# Altium schematic symbol library Connector.SchLib: 136 symbols (part 1 of 2)
Pins are listed as number, name and electrical type; pins without a type are passive.

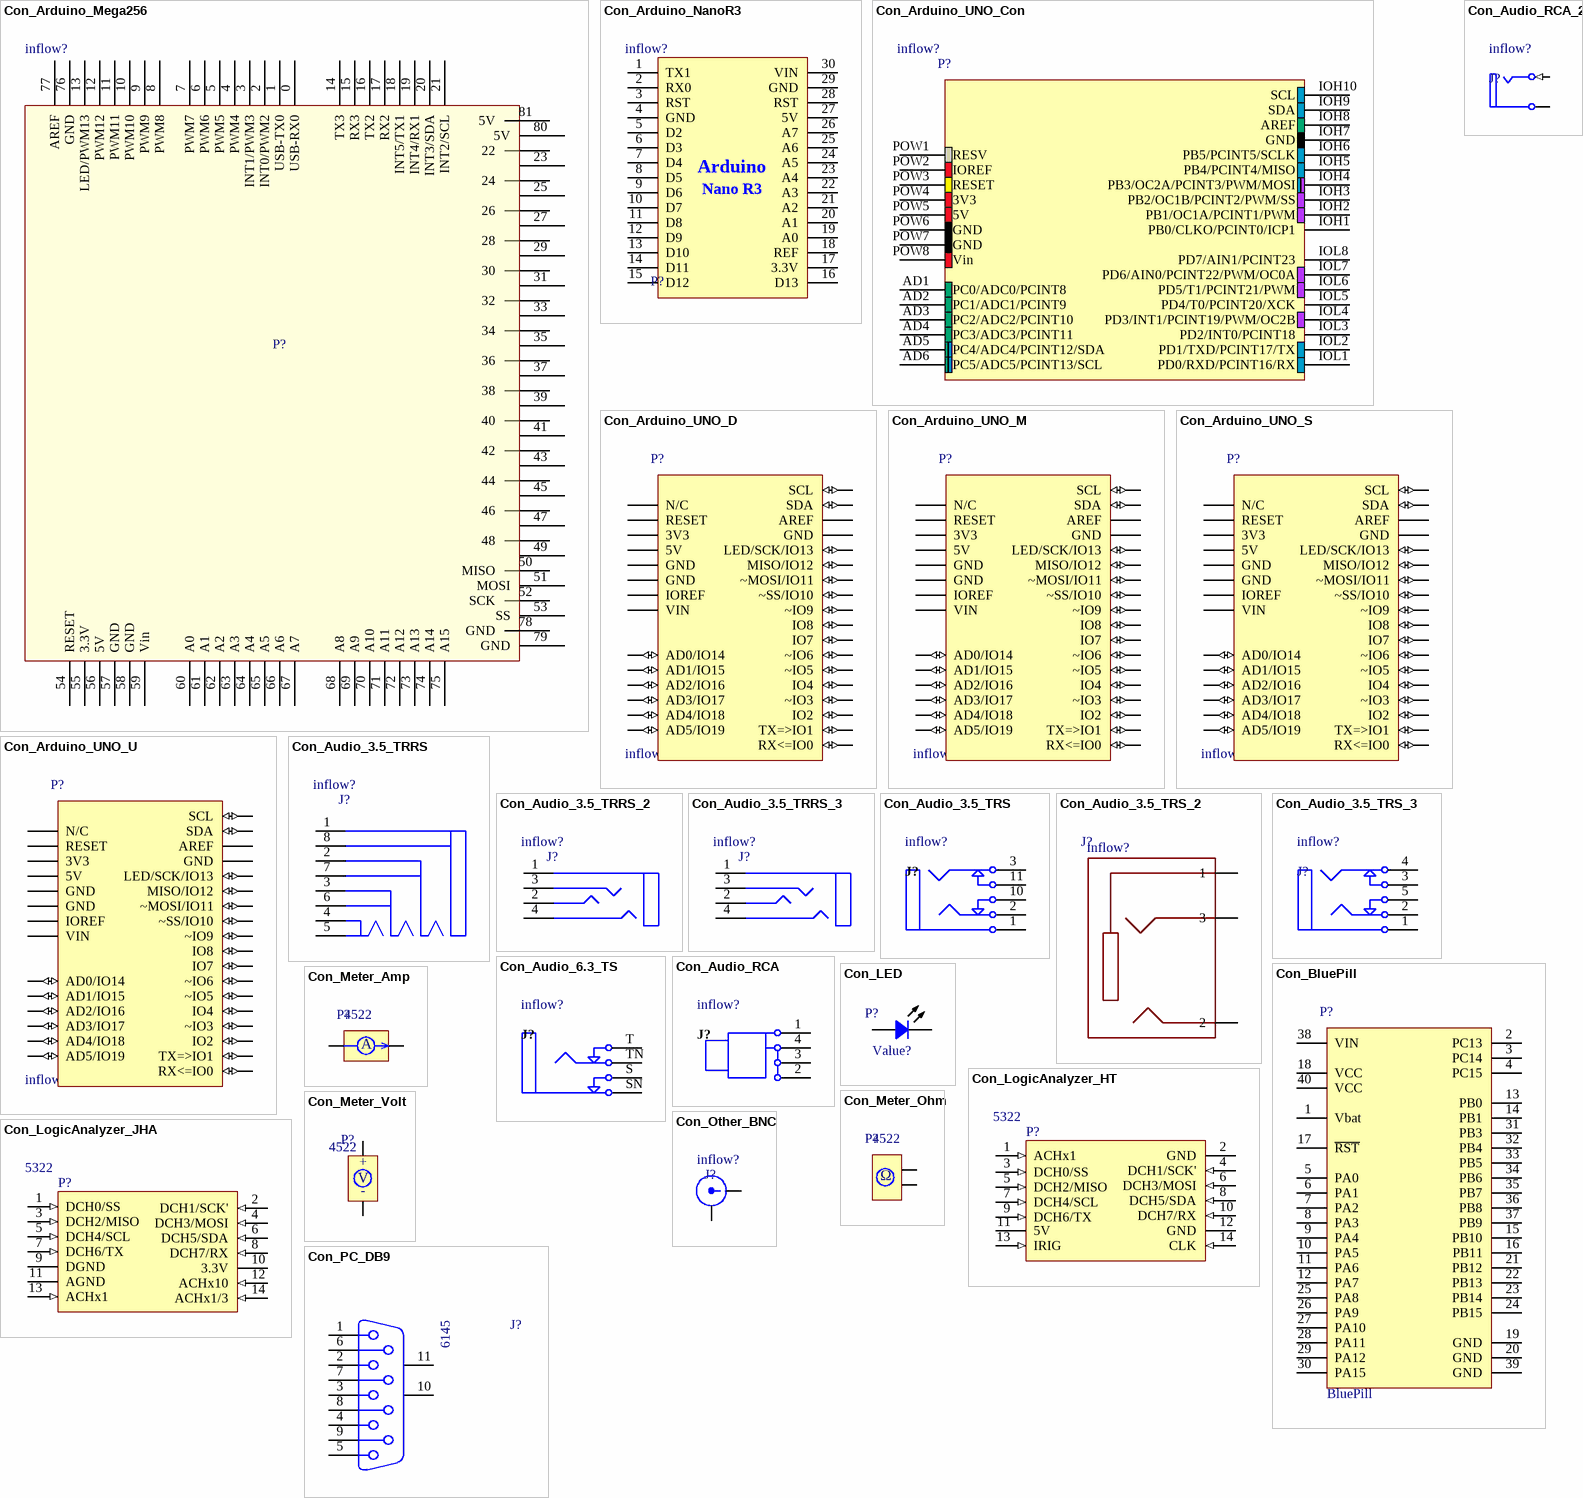
[diagram p0: symbols Con_Arduino_Mega256 to Con_PC_DB9]

## Con_Arduino_Mega256
designator P?, comment Inflow: inflow?  (hidden comment: Mega256)
Arduino Mega2560 Connector; Rating: Rating?; Validation: NT; Value: Mega256; Package: Package?; Type: Type?
footprint Arduino_Mega2560_Connector (Arduino Mega2560 Connector)
pins: 0 USB-RX0, 1 USB-TX0, 2 INT0/PWM2, 3 INT1/PWM3, 4 PWM4, 5 PWM5, 6 PWM6, 7 PWM7, 8 PWM8, 9 PWM9, 10 PWM10, 11 PWM11, 12 PWM12, 13 LED/PWM13, 14 TX3, 15 RX3, 16 TX2, 17 RX2, 18 INT5/TX1, 19 INT4/RX1, 20 INT3/SDA, 21 INT2/SCL, 22, 23, 24, 25, 26, 27, 28, 29, 30, 31, 32, 33, 34, 35, 36, 37, 38, 39, 40, 41, 42, 43, 44, 45, 46, 47, 48, 49, 50 MISO, 51 MOSI, 52 SCK, 53 SS, 54 RESET, 55 3.3V, 56 5V, 57 GND, 58 GND, 59 Vin, 60 A0, 61 A1, 62 A2, 63 A3, 64 A4, 65 A5, 66 A6, 67 A7, 68 A8, 69 A9, 70 A10, 71 A11, 72 A12, 73 A13, 74 A14, 75 A15, 76 GND, 77 AREF, 78 GND, 79 GND, 80 5V, 81 5V

## Con_Arduino_NanoR3
designator P?, comment Inflow: inflow?  (hidden comment: Nano R3)
Arduino Nano R3; Rating: Rating?; Validation: NT; Value: Nano R3; Package: Package?; Type: Type?
footprint Arduino_Nano_R3 (Arduino Nano R3, 30-Leads, Row Spacing 15.24mm, Pitch 2.54mm)
pins: 1 TX1, 2 RX0, 3 RST, 4 GND (power), 5 D2, 6 D3, 7 D4, 8 D5, 9 D6, 10 D7, 11 D8, 12 D9, 13 D10, 14 D11, 15 D12, 16 D13, 17 3.3V (power), 18 REF, 19 A0, 20 A1, 21 A2, 22 A3, 23 A4, 24 A5, 25 A6, 26 A7, 27 5V (power), 28 RST, 29 GND (power), 30 VIN (power)
text: Arduino

## Con_Arduino_UNO_Con
designator P?, comment Inflow: inflow?  (hidden comment: UNO)
Arduino UNO Connector; Rating: Rating?; Validation: Valid; Value: UNO; Package: Package?; Type: Type?
footprint ARDUINO_UNO_CONNECTOR (Arduino Uno Connector)
pins: AD1 PC0/ADC0/PCINT8, AD2 PC1/ADC1/PCINT9, AD3 PC2/ADC2/PCINT10, AD4 PC3/ADC3/PCINT11, AD5 PC4/ADC4/PCINT12/SDA, AD6 PC5/ADC5/PCINT13/SCL, IOH1 PB0/CLKO/PCINT0/ICP1, IOH2 PB1/OC1A/PCINT1/PWM, IOH3 PB2/OC1B/PCINT2/PWM/SS, IOH4 PB3/OC2A/PCINT3/PWM/MOSI, IOH5 PB4/PCINT4/MISO, IOH6 PB5/PCINT5/SCLK, IOH7 GND, IOH8 AREF, IOH9 SDA, IOH10 SCL, IOL1 PD0/RXD/PCINT16/RX, IOL2 PD1/TXD/PCINT17/TX, IOL3 PD2/INT0/PCINT18, IOL4 PD3/INT1/PCINT19/PWM/OC2B, IOL5 PD4/T0/PCINT20/XCK, IOL6 PD5/T1/PCINT21/PWM, IOL7 PD6/AIN0/PCINT22/PWM/OC0A, IOL8 PD7/AIN1/PCINT23, POW1 RESV, POW2 IOREF, POW3 RESET, POW4 3V3, POW5 5V, POW6 GND, POW7 GND, POW8 Vin

## Con_Arduino_UNO_D
designator P?, comment Inflow: inflow?  (hidden comment: UNO)  (no BOM)
Arduino uno double; Rating: Rating?; Validation: Valid; Value: UNO; Package: Package?; Type: Type?
footprint Arduino_uno_D_1
footprint Arduino_uno_D_2
footprint Arduino_uno_D_3
footprint Arduino_uno_D_4
pins: 1 N/C "Not connected", 2 RESET "PC5/RESET/PCINT14", 3 3V3 (power) "3.3'V", 4 5V (power) "5'V", 5 GND (power), 6 GND (power), 7 IOREF (power), 8 VIN (power), 9 AD0/IO14 (io) "PA0/ADC0/PCINT8", 10 AD1/IO15 (io) "PA1/ADC1/PCINT9", 11 AD2/IO16 (io) "PA2/ADC2/PCINT10", 12 AD3/IO17 (io) "PA3/ADC3/PCINT11", 13 AD4/IO18 (io) "PA4/ADC4/SDA/PCINT12", 14 AD5/IO19 (io) "PA5/ADC5/SCL/PCINT13", 15 RX<=IO0 (io) "PD0/RXD/PCINT16", 16 TX=>IO1 (io) "PD1/TXD/PCINT17", 17 IO2 (io) "PD2/INT0/PCINT18", 18 ~IO3 (io) "PD3/INT1/PWM2B/PCINT19", 19 IO4 (io) "PD4/T0/XCK/PCINT20", 20 ~IO5 (io) "PD5/T1/PWM0B/PCINT21", 21 ~IO6 (io) "PD6/AIN0/PWM0A/PCINT22", 22 IO7 (io) "PD7/AIN1/PCINT23", 23 IO8 (io) "PB0/CLK0/ICP1/PCINT0", 24 ~IO9 (io) "PB1/PWM1A/PCINT1", 25 ~SS/IO10 (io) "PB2/PWM1B/SS/PCINT2", 26 ~MOSI/IO11 (io) "PB3/PWM2A/MOSI/PCINT3", 27 MISO/IO12 (io) "PB4/MISO/PCINT4", 28 LED/SCK/IO13 (io) "PB5/SCK/LED/PCINT5", 29 GND (power), 30 AREF, 31 SDA (io) "PA4/ADC4/SDA/PCINT12", 32 SCL (io) "PA5/ADC5/SCL/PCINT13"

## Con_Arduino_UNO_M
designator P?, comment Inflow: inflow?  (hidden comment: UNO)
Arduino uno master; Rating: Rating?; Validation: Valid; Value: UNO; Package: Package?; Type: Type?
footprint Arduino_uno_M_1
footprint Arduino_uno_M_2
footprint Arduino_uno_M_3
footprint Arduino_uno_M_4
footprint Arduino_uno_M_5
footprint Arduino_uno_M_6
footprint Arduino_uno_M_7
footprint Arduino_uno_M_8
footprint Arduino_uno_M_9
pins: 1 N/C "Not connected", 2 IOREF (power), 3 RESET "PC5/RESET/PCINT14", 4 3V3 (power) "3.3'V", 5 5V (power) "5'V", 6 GND (power), 7 GND (power), 8 VIN (power), 9 AD0/IO14 (io) "PA0/ADC0/PCINT8", 10 AD1/IO15 (io) "PA1/ADC1/PCINT9", 11 AD2/IO16 (io) "PA2/ADC2/PCINT10", 12 AD3/IO17 (io) "PA3/ADC3/PCINT11", 13 AD4/IO18 (io) "PA4/ADC4/SDA/PCINT12", 14 AD5/IO19 (io) "PA5/ADC5/SCL/PCINT13", 15 RX<=IO0 (io) "PD0/RXD/PCINT16", 16 TX=>IO1 (io) "PD1/TXD/PCINT17", 17 IO2 (io) "PD2/INT0/PCINT18", 18 ~IO3 (io) "PD3/INT1/PWM2B/PCINT19", 19 IO4 (io) "PD4/T0/XCK/PCINT20", 20 ~IO5 (io) "PD5/T1/PWM0B/PCINT21", 21 ~IO6 (io) "PD6/AIN0/PWM0A/PCINT22", 22 IO7 (io) "PD7/AIN1/PCINT23", 23 IO8 (io) "PB0/CLK0/ICP1/PCINT0", 24 ~IO9 (io) "PB1/PWM1A/PCINT1", 25 ~SS/IO10 (io) "PB2/PWM1B/SS/PCINT2", 26 ~MOSI/IO11 (io) "PB3/PWM2A/MOSI/PCINT3", 27 MISO/IO12 (io) "PB4/MISO/PCINT4", 28 LED/SCK/IO13 (io) "PB5/SCK/LED/PCINT5", 29 GND (power), 30 AREF, 31 SDA (io) "PA4/ADC4/SDA/PCINT12", 32 SCL (io) "PA5/ADC5/SCL/PCINT13"

## Con_Arduino_UNO_S
designator P?, comment Inflow: inflow?  (hidden comment: UNO)  (no BOM)
Arduino uno slave; Rating: Rating?; Validation: Valid; Value: UNO; Package: Package?; Type: Type?
footprint Arduino_uno_S_1
footprint Arduino_uno_S_2
footprint Arduino_uno_S_3
footprint Arduino_uno_S_4
pins: 1 N/C "Not connected", 2 IOREF (power), 3 RESET "PC5/RESET/PCINT14", 4 3V3 (power) "3.3'V", 5 5V (power) "5'V", 6 GND (power), 7 GND (power), 8 VIN (power), 9 AD0/IO14 (io) "PA0/ADC0/PCINT8", 10 AD1/IO15 (io) "PA1/ADC1/PCINT9", 11 AD2/IO16 (io) "PA2/ADC2/PCINT10", 12 AD3/IO17 (io) "PA3/ADC3/PCINT11", 13 AD4/IO18 (io) "PA4/ADC4/SDA/PCINT12", 14 AD5/IO19 (io) "PA5/ADC5/SCL/PCINT13", 15 RX<=IO0 (io) "PD0/RXD/PCINT16", 16 TX=>IO1 (io) "PD1/TXD/PCINT17", 17 IO2 (io) "PD2/INT0/PCINT18", 18 ~IO3 (io) "PD3/INT1/PWM2B/PCINT19", 19 IO4 (io) "PD4/T0/XCK/PCINT20", 20 ~IO5 (io) "PD5/T1/PWM0B/PCINT21", 21 ~IO6 (io) "PD6/AIN0/PWM0A/PCINT22", 22 IO7 (io) "PD7/AIN1/PCINT23", 23 IO8 (io) "PB0/CLK0/ICP1/PCINT0", 24 ~IO9 (io) "PB1/PWM1A/PCINT1", 25 ~SS/IO10 (io) "PB2/PWM1B/SS/PCINT2", 26 ~MOSI/IO11 (io) "PB3/PWM2A/MOSI/PCINT3", 27 MISO/IO12 (io) "PB4/MISO/PCINT4", 28 LED/SCK/IO13 (io) "PB5/SCK/LED/PCINT5", 29 GND (power), 30 AREF, 31 SDA (io) "PA4/ADC4/SDA/PCINT12", 32 SCL (io) "PA5/ADC5/SCL/PCINT13"

## Con_Arduino_UNO_U
designator P?, comment Inflow: inflow?  (hidden comment: UNO)  (no BOM)
Arduino uno up; Rating: Rating?; Validation: Valid; Value: UNO; Package: Package?; Type: Type?
footprint Arduino_uno_U_1
footprint Arduino_uno_U_2
pins: 1 N/C "Not connected", 2 RESET "PC5/RESET/PCINT14", 3 3V3 (power) "3.3'V", 4 5V (power) "5'V", 5 GND (power), 6 GND (power), 7 IOREF (power), 8 VIN (power), 9 AD0/IO14 (io) "PA0/ADC0/PCINT8", 10 AD1/IO15 (io) "PA1/ADC1/PCINT9", 11 AD2/IO16 (io) "PA2/ADC2/PCINT10", 12 AD3/IO17 (io) "PA3/ADC3/PCINT11", 13 AD4/IO18 (io) "PA4/ADC4/SDA/PCINT12", 14 AD5/IO19 (io) "PA5/ADC5/SCL/PCINT13", 15 RX<=IO0 (io) "PD0/RXD/PCINT16", 16 TX=>IO1 (io) "PD1/TXD/PCINT17", 17 IO2 (io) "PD2/INT0/PCINT18", 18 ~IO3 (io) "PD3/INT1/PWM2B/PCINT19", 19 IO4 (io) "PD4/T0/XCK/PCINT20", 20 ~IO5 (io) "PD5/T1/PWM0B/PCINT21", 21 ~IO6 (io) "PD6/AIN0/PWM0A/PCINT22", 22 IO7 (io) "PD7/AIN1/PCINT23", 23 IO8 (io) "PB0/CLK0/ICP1/PCINT0", 24 ~IO9 (io) "PB1/PWM1A/PCINT1", 25 ~SS/IO10 (io) "PB2/PWM1B/SS/PCINT2", 26 ~MOSI/IO11 (io) "PB3/PWM2A/MOSI/PCINT3", 27 MISO/IO12 (io) "PB4/MISO/PCINT4", 28 LED/SCK/IO13 (io) "PB5/SCK/LED/PCINT5", 29 GND (power), 30 AREF, 31 SDA (io) "PA4/ADC4/SDA/PCINT12", 32 SCL (io) "PA5/ADC5/SCL/PCINT13"

## Con_Audio_3.5_TRRS
designator J?, comment Inflow: inflow?  (hidden comment: 3.5'mm Jack)
PJ-313E 3.5mm SMT Audio Jack; Rating: Rating?; Validation: NT; Value: 3.5'mm Jack; Package: Package?; Type: TRRS
footprint SMT_AUDIO_JACK_PJ_313E (PJ-313E 3.5mm SMT Audio Jack)
pins: 1 GND/MIC "Ground or Microphone", 2 MIC/GND "Microphone or Ground", 3 RCH "Right channel", 4 LCH "Left channel", 5 LCH "Left channel", 6 RCH "Right channel", 7 MIC/GND "Microphone or Ground", 8 GND/MIC "Ground or Microphone"

## Con_Audio_3.5_TRRS_2
designator J?, comment Inflow: inflow?  (hidden comment: 3.5'mm Jack)
PJ-313D 3.5mm SMT Audio Jack; Rating: Rating?; Validation: NT; Value: 3.5'mm Jack; Package: Package?; Type: TRRS
footprint SMT_AUDIO_JACK_PJ_313D (PJ-313D 3.5mm SMT Audio Jack)
footprint SMT_AUDIO_JACK_PJ_313D_2 (PJ-313D 3.5mm SMT Audio Jack)
pins: 1 SLEEVE, 2 TIP, 3 RING1, 4 RING2

## Con_Audio_3.5_TRRS_3
designator J?, comment Inflow: inflow?  (hidden comment: 3.5'mm Jack)
TRRS 3.5mm SMT Audio Jack; Rating: Rating?; Validation: NT; Value: 3.5'mm Jack; Package: Package?; Type: TRRS
footprint SMT_AUDIO_JACK_TRRS (TRRS 3.5mm SMT Audio Jack)
pins: 1 SLEEVE, 2 TIP, 3 RING1, 4 RING2

## Con_Audio_3.5_TRS
designator J?, comment Inflow: inflow?  (hidden comment: Phonejack)
Connector, 3.5mm Stereo Audio Socket, Black, 2 break contacts (normals) and 2 auxiliary make contacts; Rating: Rating?; Validation: NT; Value: Phonejack; Package: Package?; Type: TRS
footprint DIP_CON_TSH_3675_Headphone
footprint DIP_CON_TSH_3675_Line In
footprint DIP_CON_TSH_3675_Line Out
pins: 1, 2, 3, 10, 11
3 alternate drawings of the same symbol

## Con_Audio_3.5_TRS_2
designator J?, comment Inflow: inflow?  (hidden comment: 3.5'mm Jack)
3.5 mm Right-Angle Stereo Jack, 4 Pin PCB Mount, Isolated Ground; Rating: Rating?; Validation: NT; Value: 3.5'mm Jack; Package: Package?; Type: TRS
footprint 3.5mm jack
pins: 1, 2, 3

## Con_Audio_3.5_TRS_3
designator J?, comment Inflow: inflow?  (hidden comment: Phonejack)
3-Conductor Jack with 2 break contacts (normals) and 2 auxiliary make contacts; Rating: Rating?; Validation: NT; Value: Phonejack; Package: Package?; Type: TRS
footprint ST-3150-5N (Connector; Stereo Jack, 3.5mm, 5 Position)
pins: 1, 1A, 1B, 2, 2A, 2B, 3, 3A, 3B, 4, 4A, 4B, 5, 5A, 5B

## Con_Audio_6.3_TS
designator J?, comment Inflow: inflow?  (hidden comment: Phonejack)
Connector, 6.3mm Mono Audio Socket; Rating: Rating?; Validation: NT; Value: Phonejack; Package: Package?; Type: TS
footprint NEUTRIK_NMJ4HFD2
pins: S, SN, T, TN
3 alternate drawings of the same symbol

## Con_Audio_RCA
designator J?, comment Inflow: inflow?  (hidden comment: RCA)
Connector, TRC-005-4 , Black RCA Phono Jack, Right Angle, Thru-Hole, Snap-In; Rating: Rating?; Validation: NT; Value: RCA; Package: Package?; Type: Type?
footprint DIP_CON_TRC
pins: 1 Black, 2 Yellow, 3 White, 4 Red

## Con_Audio_RCA_2
designator J?, comment Inflow: inflow?  (hidden comment: RCA)
RCA Phono Jack, Right Angle, Thru-Hole, Snap-In; Rating: Rating?; Validation: NT; Value: RCA; Package: Package?; Type: Type?
footprint RCA/4.5-H2 (Two Conductor Jack (RCA), Right Angle, Thru-Hole, Body 10 x 10 x 13 mm (WxTxH))
pins: 1A Ground (power) "Outer Shield (Sleeve)", 2B Signal (in) "Center Pin (Plug Tip)"

## Con_BluePill
designator P?, comment BluePill  (no BOM)
Rating: Rating?; Inflow: inflow?; Validation: Valid; Package: Dip; Type: STM32; Value: BluePill
footprint BluePill
pins: 1 Vbat, 2 PC13, 3 PC14, 4 PC15, 5 PA0, 6 PA1, 7 PA2, 8 PA3, 9 PA4, 10 PA5, 11 PA6, 12 PA7, 13 PB0, 14 PB1, 15 PB10, 16 PB11, 17 ~{RST}, 18 VCC, 19 GND, 20 GND, 21 PB12, 22 PB13, 23 PB14, 24 PB15, 25 PA8, 26 PA9, 27 PA10, 28 PA11, 29 PA12, 30 PA15, 31 PB3, 32 PB4, 33 PB5, 34 PB6, 35 PB7, 36 PB8, 37 PB9, 38 VIN "5V", 39 GND, 40 VCC "3.3V"

## Con_LED
designator P?, comment Value?
LED Connector 2'Pin; Rating: Rating?; Inflow: inflow?; Validation: Valid; Package: Dip; Type: LED; Value: Value?
footprint MOLEX KK 0022272021
footprint JST XH B2B-XH-A
footprint JST XH B2B-XH-A - RIGHT
footprint HDR 1X2 (Connector; Header; 2 Position)
footprint Molex sda-70553-2pin (SL Right angle header with latch, 0.100 centres, SDA-70553)
pins: 1, 2

## Con_LogicAnalyzer_HT
designator P?, comment Inflow: 5322  (hidden comment: HT)
HT USBee-AxPro oscilloscope and Logic Analyzer; Rating: Rating?; Validation: NT; Value: HT; Package: Package?; Type: Type?
footprint BOX-HDR-7X2-2.54mm-S (14 pins, straight, gold plating)
footprint BOX-HDR-7X2-2.54mm-RA (14 pins, right angled, gold plating)
footprint IDC2.54_7x2_CROSS
pins: 1 ACHx1 (in) "-10~10'V", 2 GND (power), 3 DCH0/SS (in) "0~5'V", 4 DCH1/SCK' (in) "0~5'V", 5 DCH2/MISO (in) "0~5'V", 6 DCH3/MOSI (in) "0~5'V", 7 DCH4/SCL (in) "0~5'V", 8 DCH5/SDA (in) "0~5'V", 9 DCH6/TX (in) "0~5'V", 10 DCH7/RX (in) "0~5'V", 11 5V (power) "+5'v", 12 GND (power), 13 IRIG (in) "External TRG", 14 CLK (in) "External Clock"

## Con_LogicAnalyzer_JHA
designator P?, comment Inflow: 5322  (hidden comment: JHA)
JHA USBee-AxPro oscilloscope and Logic Analyzer; Rating: Rating?; Validation: NT; Value: JHA; Package: Package?; Type: Type?
footprint BOX-HDR-7X2-2.54mm-S (14 pins, straight, gold plating)
footprint BOX-HDR-7X2-2.54mm-RA (14 pins, right angled, gold plating)
footprint IDC2.54_7x2_CROSS
pins: 1 DCH0/SS (in) "0~5'V", 2 DCH1/SCK' (in) "0~5'V", 3 DCH2/MISO (in) "0~5'V", 4 DCH3/MOSI (in) "0~5'V", 5 DCH4/SCL (in) "0~5'V", 6 DCH5/SDA (in) "0~5'V", 7 DCH6/TX (in) "0~5'V", 8 DCH7/RX (in) "0~5'V", 9 DGND (power) "GND", 10 3.3V (power) "+3.3'v", 11 AGND (power), 12 ACHx10 (in) "-100~100'V", 13 ACHx1 (in) "-10~10'V", 14 ACHx1/3 (in) "-3.3~3.3'V"

## Con_Meter_Amp
designator P?, comment Inflow: 4522  (hidden comment: 2'Pin)
Amper Meter Connector; Rating: Rating?; Validation: NT; Value: 2'Pin; Package: Package?; Type: Type?
footprint MOLEX_KK_2_V
pins: 1 +, 2 -
text: A

## Con_Meter_Ohm
designator P?, comment Inflow: 4522  (hidden comment: 2'Pin)
Ohm Meter Connector; Rating: Rating?; Validation: NT; Value: 2'Pin; Package: Package?; Type: Type?
footprint MOLEX_KK_2_Ohm
pins: 1 +, 2 -
text: Ω

## Con_Meter_Volt
designator P?, comment Inflow: 4522  (hidden comment: 2'Pin)
Volt Meter Connector; Rating: Rating?; Validation: NT; Value: 2'Pin; Package: Package?; Type: Type?
footprint MOLEX_KK_2_V
pins: 1 +, 2 -
text: V

## Con_Other_BNC
designator J?, comment Inflow: inflow?  (hidden comment: BNC)
BNC Socket, PCB Mounted; Rating: Rating?; Validation: NT; Value: BNC; Package: Package?; Type: Type?
footprint BNC - Connector
footprint BNC - Complex
footprint BNC_RA con (Connector; BNC Elbow)
pins: 1, 2

## Con_PC_DB9
designator J?, comment Inflow: 6145  (hidden comment: RS232)
Receptacle Assembly, 9 Position, Right Angle RS232 (COM); Rating: Rating?; Validation: Valid; Value: RS232; Package: DB9; Type: Type?
footprint DB9 Female (Connector; D Subminiature AMPLIMITE 2000; 9 Position; Right Angle)
footprint DB9 Male (Connector; D Subminiature AMPLIMITE 2000; 9 Position; Right Angle)
pins: 1, 2, 3, 4, 5, 6, 7, 8, 9, 10 MH1, 11 MH2

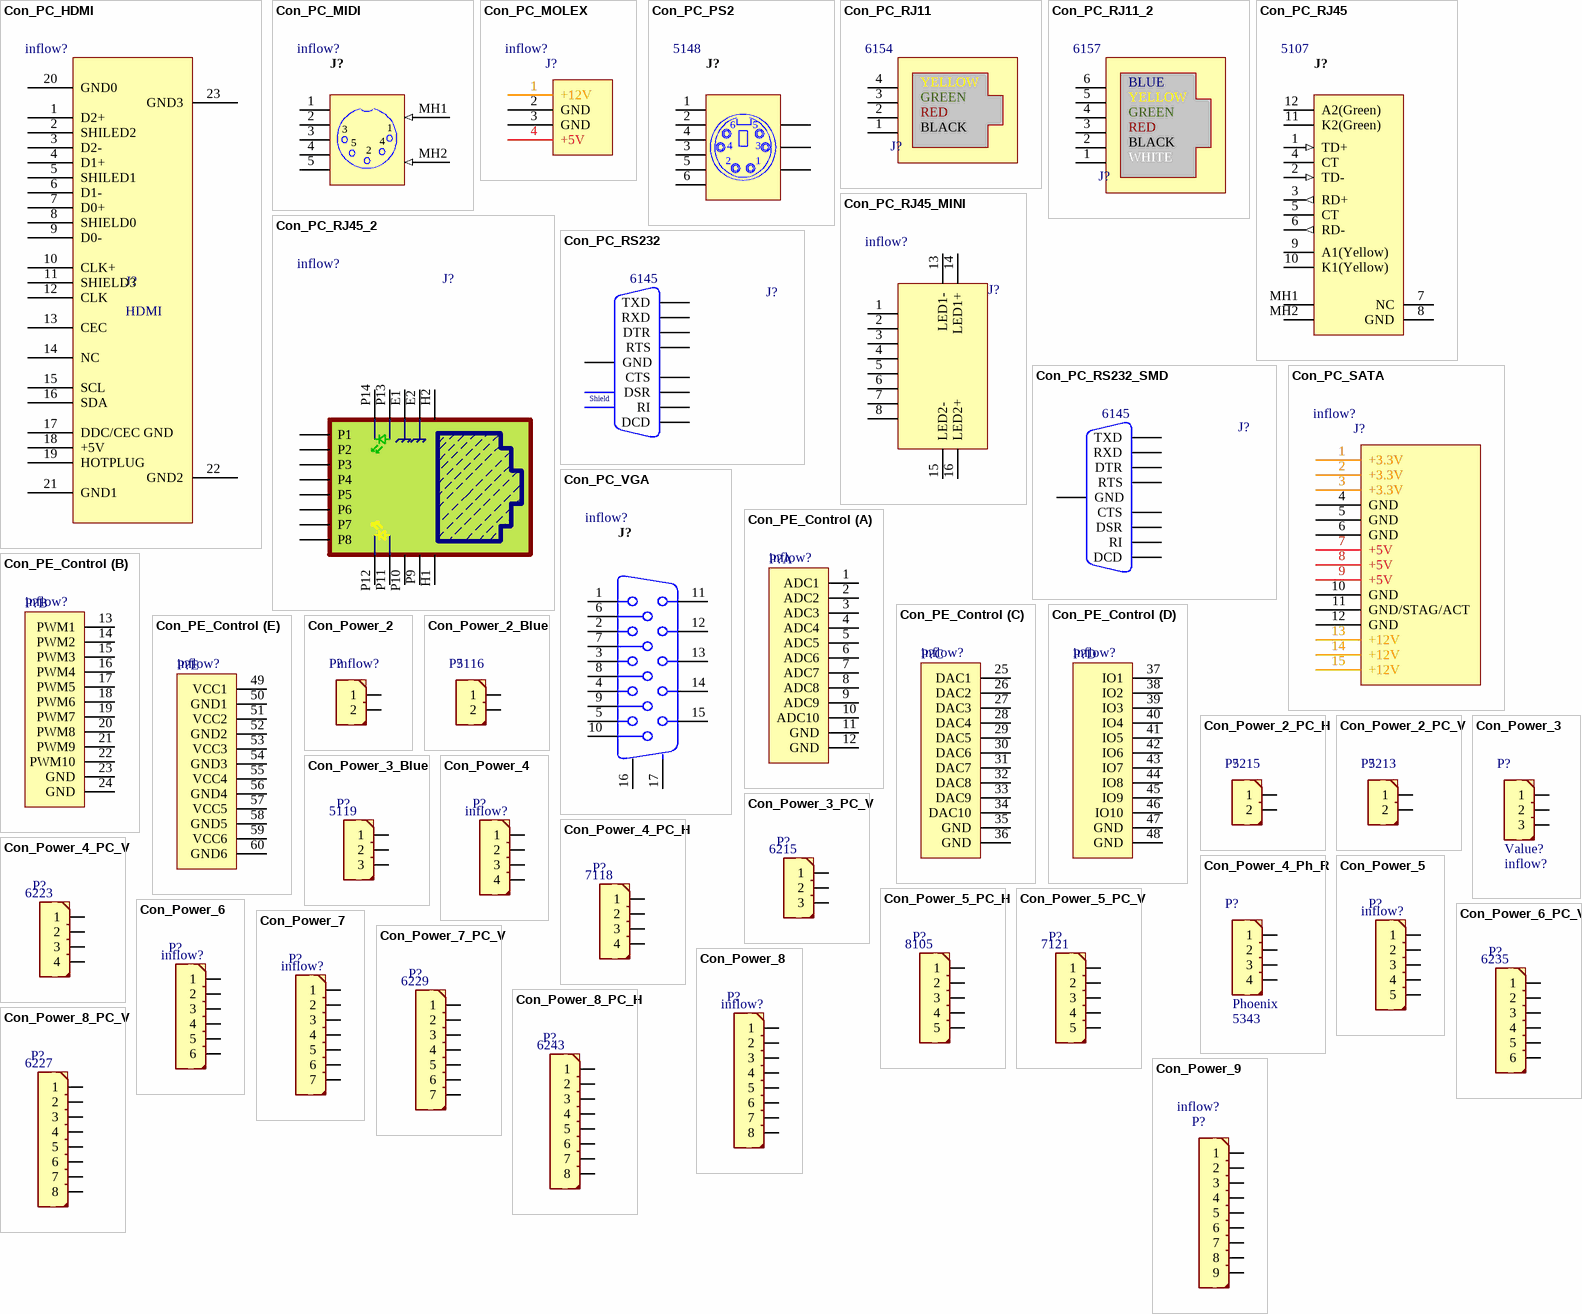
[diagram p1: symbols Con_PC_HDMI to Con_Power_9]

## Con_PC_HDMI
designator J?, comment HDMI  Inflow: inflow?
Rating: Rating?; Validation: NT; Value: HDMI; Package: Package?; Type: Type?
footprint HDMI
pins: 1 D2+, 2 SHILED2, 3 D2-, 4 D1+, 5 SHILED1, 6 D1-, 7 D0+, 8 SHIELD0, 9 D0-, 10 CLK+, 11 SHIELD3, 12 CLK, 13 CEC, 14 NC, 15 SCL, 16 SDA, 17 DDC/CEC GND, 18 +5V, 19 HOTPLUG, 20 GND0, 21 GND1, 22 GND2, 23 GND3

## Con_PC_MIDI
designator J?, comment Inflow: inflow?  (hidden comment: Midi)
Socket, 5-way R/A DIN; Rating: Rating?; Validation: NT; Value: Midi; Package: Package?; Type: Type?
footprint DIP_CON_DIN5 (KMFCDIN76005)
pins: 1, 2, 3, 4, 5, MH1 (in), MH2 (in)

## Con_PC_MOLEX
designator J?, comment Inflow: inflow?  (hidden comment: Molex)
4P power connector for hard drive or floppy; Rating: Rating?; Validation: NT; Value: Molex; Package: Package?; Type: Type?
footprint POW4P-MOLEX (4P power connector for hard drive or floppy)
footprint POW4P-MOLEX-BENT (4P power connector for hard drive or floppy)
pins: 1 +12V, 2 GND, 3 GND, 4 +5V

## Con_PC_PS2
designator J?, comment Inflow: 5148  (hidden comment: PS2)
MINI DIN R/A F/SHLD 6P GOLD PLATED; Black; Rating: Rating?; Validation: NT; Value: PS2; Package: Package?; Type: Type?
footprint DIP_CON_MINIDIN6_Keyboard (PS2 Conector-Keyboard)
footprint DIP_CON_MINIDIN6_MOUSE
pins: 1, 2, 3, 4, 5, 6, MH1 "Mounting Fixture", MH2 "Mounting Fixture", MH3 "Mounting Fixture"

## Con_PC_RJ11
designator J?, comment Inflow: 6154  (hidden comment: 4'Pin)
Jack Network Telephone Socket Female; Rating: Rating?; Validation: NT; Value: 4'Pin; Package: Package?; Type: Type?
footprint Rj11-4P4C (Body 13 x 10mm,Pitch 2.04mm)
pins: 1 BLACK, 2 RED, 3 GREEN, 4 YELLOW

## Con_PC_RJ11_2
designator J?, comment Inflow: 6157  (hidden comment: 6'pin)
Jack Network Telephone Socket Female; Rating: Rating?; Validation: NT; Value: 6'pin; Package: Package?; Type: Type?
footprint Rj11-6P6C (Body 13 x 12.2mm,Pitch 2.04mm)
pins: 1 WHITE, 2 BLACK, 3 RED, 4 GREEN, 5 YELLOW, 6 BLUE

## Con_PC_RJ45
designator J?, comment Inflow: 5107  (hidden comment: RJ45)
Socket, 1x1 Tab-DOWN R/A 8-Way RJ45; Rating: Rating?; Validation: NT; Value: RJ45; Package: Package?; Type: Type?
footprint DIP_CON_RJ45_RA_LEDS
footprint DIP_CON_RJ45_RA_LEDS2 (HR911105A Connector)
pins: 1 TD+ (in), 2 TD- (in), 3 RD+ (out), 4 CT (power), 5 CT (power), 6 RD- (out), 7 NC, 8 GND (power), 9 A1(Yellow), 10 K1(Yellow), 11 K2(Green), 12 A2(Green), MH1 (power), MH2 (power)
1 alternate drawing of the same symbol

## Con_PC_RJ45_2
designator J?, comment Inflow: inflow?  (hidden comment: RJ000002)
RJ45 Jack  With Magnetic + LED, LAN 10/100BASE T ,Power over Ethernet; Rating: Rating?; Validation: NT; Value: RJ000002; Package: Package?; Type: Type?
footprint RJ000002 (RJ-45)
pins: E1, E2, H1, H2, P1, P2, P3, P4, P5, P6, P7, P8, P9, P10, P11, P12, P13, P14

## Con_PC_RJ45_MINI
designator J?, comment Inflow: inflow?  (hidden comment: RJ45, mini)
RJ45 Mini With two LEDs; Rating: Rating?; Validation: NT; Value: RJ45, mini; Package: Package?; Type: Type?
footprint RJ45_MINI (RJ45 MiniWith LED)
pins: 1, 2, 3, 4, 5, 6, 7, 8, 13 LED1-, 14 LED1+, 15 LED2-, 16 LED2+

## Con_PC_RS232
designator J?, comment Inflow: 6145  (hidden comment: RS232)
Receptacle Assembly, 9 Position, Right Angle RS232 (COM); Rating: Rating?; Validation: NT; Value: RS232; Package: Package?; Type: Type?
footprint DB9 Male (Connector; D Subminiature AMPLIMITE 2000; 9 Position; Right Angle)
footprint DB9 Female (Connector; D Subminiature AMPLIMITE 2000; 9 Position; Right Angle)
pins: 1 DCD, 2 RXD, 3 TXD, 4 DTR, 5 GND, 6 DSR, 7 RTS, 8 CTS, 9 RI, 10 MH1, 11 MH2
text: Shield

## Con_PC_RS232_SMD
designator J?, comment Inflow: 6145  (hidden comment: RS232)
Receptacle Assembly, 9 Position, Right Angle RS232 (COM); Rating: Rating?; Validation: NT; Value: RS232; Package: Package?; Type: Type?
footprint DB9 Male - Edge (Connector; D Subminiature AMPLIMITE 2000; 9 Position; Right Angle)
pins: 1 DCD, 2 RXD, 3 TXD, 4 DTR, 5 GND, 6 DSR, 7 RTS, 8 CTS, 9 RI

## Con_PC_SATA
designator J?, comment Inflow: inflow?  (hidden comment: SATA)
15P power connector for serial ata interface; Rating: Rating?; Validation: NT; Value: SATA; Package: Package?; Type: Type?
footprint POW15P-SATA (15P power connector for serial ata interface)
footprint POW15P-SATA-BENT (15P power connector for serial ata interface)
pins: 1 +3.3V, 2 +3.3V, 3 +3.3V, 4 GND, 5 GND, 6 GND, 7 +5V, 8 +5V, 9 +5V, 10 GND, 11 GND/STAG/ACT, 12 GND, 13 +12V, 14 +12V, 15 +12V

## Con_PC_VGA
designator J?, comment Inflow: inflow?  (hidden comment: VGA)
Socket, High-Density DB15 (HD15) R/A Female Through-hole; Rating: Rating?; Validation: NT; Value: VGA; Package: Package?; Type: Type?
footprint DIP_CON_DB15_FEMALE
pins: 1 "Red Video", 2 "Green Video", 3 "Blue Video", 4 "Monitor ID Bit 2 (Ground)", 5 (power) "Ground", 6 (power) "Red Return (Ground)", 7 (power) "Green Return (Ground)", 8 (power) "Blue Return (Ground)", 9 "Key (not used)", 10 (power) "Sync Return (Ground)", 11 (power) "Monitor ID Bit 0 (Ground)", 12 "Monitor ID Bit 1 (Not Used)", 13 "Horizontal Zync", 14 "Vertical Sync", 15 "Vertical Sync", 16 MH1 "shield", 17 MH2 "shield"

## Con_PE_Control
designator P?, comment Inflow: inflow?  (hidden comment: 30x2)
Power Electronics Control Board 60 pins  Male Box Header Connector; Rating: Rating?; Validation: NT; Value: 30x2; Package: Package?; Type: Type?
footprint BOX-HDR-30X2-2.54mm-S (60 pins, straight, gold plating)
footprint BOX-HDR-30X2-2.54mm-RA (60 pins, right angled, gold plating)
footprint BOX-HDR-30X2-2.54mm-SL (60 pins, straight, short lever, gold plating)
footprint BOX-HDR-30X2-2.54mm-RA-SL (60 pins, right angeled, short lever, gold plating)
footprint BOX-HDR-30X2-2.54mm-LL (60 pins, straight, long lever, gold plating)
footprint BOX-HDR-30X2-2.54mm-RA-LL (60 pins, right angeled, long lever, gold plating)
part A pins: 1 ADC1, 2 ADC2, 3 ADC3, 4 ADC4, 5 ADC5, 6 ADC6, 7 ADC7, 8 ADC8, 9 ADC9, 10 ADC10, 11 GND, 12 GND
part B pins: 13 PWM1, 14 PWM2, 15 PWM3, 16 PWM4, 17 PWM5, 18 PWM6, 19 PWM7, 20 PWM8, 21 PWM9, 22 PWM10, 23 GND, 24 GND
part C pins: 25 DAC1, 26 DAC2, 27 DAC3, 28 DAC4, 29 DAC5, 30 DAC6, 31 DAC7, 32 DAC8, 33 DAC9, 34 DAC10, 35 GND, 36 GND
part D pins: 37 IO1, 38 IO2, 39 IO3, 40 IO4, 41 IO5, 42 IO6, 43 IO7, 44 IO8, 45 IO9, 46 IO10, 47 GND, 48 GND
part E pins: 49 VCC1, 50 GND1, 51 VCC2, 52 GND2, 53 VCC3, 54 GND3, 55 VCC4, 56 GND4, 57 VCC5, 58 GND5, 59 VCC6, 60 GND6

## Con_Power_2
designator P?, comment Inflow: inflow?  (hidden comment: 2'Pin)
Power Connector 2'Pin; Rating: Rating?; Validation: NT; Value: 2'Pin; Package: Package?; Type: Type?
footprint TE 282834-2
footprint Socket_Blue_2
footprint PRKR2A
footprint Molex-2pin
footprint CON_MKDSN1,5/2-5,08
footprint CON_MSTBA02
footprint MSTBV 2,5/2-G-5 (Header, Nominal current: 12 A Rated voltage (III/2): 320 V Number of positions: 2 Pitch: 5mm Color: green Contact surface: Tin Assembly: Soldering DESIGNER:ABBAS BASEREH)
footprint MSTB 2,5/2-G-5,08 (Header, Nominal current: 12 A Rated voltage (III/2): 320 V Number of positions: 2 Pitch: 5.08 mm Color: green Contact surface: Tin Assembly: Soldering DESIGNER:ABBAS BASEREH)
footprint 2Pin
footprint 645002114822 (3.96mm Male Locking Header, 2p)
footprint 645002117322 (3.96mm Male Right Angled Locking Header, 2p)
footprint TMS_2R (Connector; TMS Sereis; 2 Position ,2.54mm Pitch)
footprint Phoenix_2PIN_RA_P7.62mm (Phoenix 2 Pin; Pitch 7.62mm;)
footprint Phoenix_2PIN_RA_P5.08mm (Phoenix 2 Pin; Pitch 5.08mm; Body 1016X1200)
footprint Phoenix_2PIN_RA_P5.00mm (Phoenix 2 Pin; Pitch 5.08mm;)
footprint Phoenix_2PIN_RA_P3.81mm (Phoenix 2 Pin; Pitch 3.81mm;)
footprint Phoenix_2PIN_RA_P3.50mm (Phoenix 2 Pin; Pitch 3.50mm;)
footprint Phoenix_2PIN_RA_P2.50mm (Phoenix 2 Pin; Pitch 2.50mm;)
footprint Terminal_2Pin_P5.00mm (Terminal Block; 2Pin; Pitch 5.00mm; Body 1000x900mm)
footprint Terminal_2Pin_P5.08mm (Terminal Block; 2 Pin; Pitch 5.08mm;)
footprint KF-65-2
footprint KF-55-2
footprint KF-45-2
footprint KF-35-2
footprint KF762_2Pin_P7.62mm (Terminal Block; 2Pin; Pitch 7.62mm; Body 1614x1220mm)
pins: 1, 2

## Con_Power_2_Blue
designator P?, comment Inflow: 5116  (hidden comment: 2'Pin)
2'Pin power blue connector; Rating: Rating?; Validation: Valid; Value: 2'Pin; Package: Package?; Type: Type?
footprint Socket_Blue_2
pins: 1, 2

## Con_Power_2_PC_H
designator P?, comment Inflow: 5215  (hidden comment: 2'Pin)
2'Pin Power Connector; Rating: Rating?; Validation: Valid; Value: 2'Pin; Package: Package?; Type: Type?
footprint 645002117322 (3.96mm Male Right Angled Locking Header, 2p)
pins: 1, 2

## Con_Power_2_PC_V
designator P?, comment Inflow: 5213  (hidden comment: 2'Pin)
2'Pin Power Connector; Rating: Rating?; Validation: Valid; Value: 2'Pin; Package: Package?; Type: Type?
footprint 645002114822 (3.96mm Male Locking Header, 2p)
pins: 1, 2

## Con_Power_3
designator P?, comment Inflow: inflow?  (hidden comment: Value?)
Power Connector 3'Pin; Rating: 3b; Validation: Valid; Package: Dip; Type: Type?; Value: Value?
footprint TE 282834-3
footprint Socket_Blue_3
footprint PRKR3A
footprint Molex-3pin
footprint CON_MKDSN1,5/3-5,08
footprint CON_MSTBA03
footprint MSTBV 2,5/3-G-5 (Header, Nominal current: 12 A Rated voltage (III/2): 320 V Number of positions: 3 Pitch: 5mm Color: green Contact surface: Tin Assembly: Soldering  DESIGNER:ABBAS BASEREH)
footprint MSTB 2,5/3-G-5,08 (Header, Nominal current: 12 A Rated voltage (III/2): 320 V Number of positions: 3 Pitch: 5.08 mm Color: green Contact surface: Tin Assembly: Soldering  DESIGNER:ABBAS BASEREH)
footprint 3Pin
footprint 645003114822 (3.96mm Male Locking Header, 3p)
footprint 645003117322 (3.96mm Male Right Angled Locking Header, 3p)
footprint TMS_3R (Connector; TMS Sereis; 3 Position ,2.54mm Pitch)
footprint Phoenix_3PIN_RA_P7.62mm (Phoenix 3 Pin; Pitch 7.62mm;)
footprint Phoenix_3PIN_RA_P5.08mm (Phoenix 3 Pin; Pitch 5.08mm; Body 1524X1200)
footprint Phoenix_3PIN_RA_P5.00mm (Phoenix 3 Pin; Pitch 5.08mm;)
footprint Phoenix_3PIN_RA_P3.81mm (Phoenix 3 Pin; Pitch 3.81mm;)
footprint Phoenix_3PIN_RA_P3.50mm (Phoenix 2 Pin; Pitch 3.50mm;)
footprint Phoenix_3PIN_RA_P2.50mm (Phoenix 3 Pin; Pitch 2.50mm;)
footprint Terminal_3Pin_P5.08mm (Terminal Block; 3 Pin; Pitch 5.08mm;)
footprint Terminal_3Pin_P5.00mm (Terminal Block; 3Pin; Pitch 5.00mm; Body 1500x900mm)
footprint kf-65-3
footprint kf-55-3
footprint kf-45-3
footprint kf-35-3
footprint KF762_3Pin_P7.62mm (Terminal Block; 3Pin; Pitch 7.62mm; Body 2376x1220mm)
pins: 1, 2, 3

## Con_Power_3_Blue
designator P?, comment Inflow: 5119  (hidden comment: 3'Pin)
3'Pin power blue connector; Rating: Rating?; Validation: Valid; Value: 3'Pin; Package: Package?; Type: Type?
footprint Socket_Blue_3
pins: 1, 2, 3

## Con_Power_3_PC_V
designator P?, comment Inflow: 6215  (hidden comment: 3'Pin)
3'Pin Power Connector; Rating: Rating?; Validation: Valid; Value: 3'Pin; Package: Package?; Type: Type?
footprint 645003114822 (3.96mm Male Locking Header, 3p)
pins: 1, 2, 3

## Con_Power_4
designator P?, comment Inflow: inflow?  (hidden comment: 4'Pin)
Power Connector 4'Pin; Rating: Rating?; Validation: Valid; Value: 4'Pin; Package: Package?; Type: Type?
footprint TE 282834-4
footprint PRKR4A
footprint Molex-4pin
footprint CON_MKDSN1,5/4-5,08
footprint CON_MSTBA04
footprint MSTBV 2,5/4-G-5 (Header, Nominal current: 12 A Rated voltage (III/2): 320 V Number of positions: 4 Pitch: 5mm Color: green Contact surface: Tin Assembly: Soldering  DESIGNER ABBAS BASEREH)
footprint MSTB 2,5/4-G-5,08 (Header, Nominal current: 12 A Rated voltage (III/2): 320 V Number of positions: 4 Pitch: 5,08 mm Color: green Contact surface: Tin Assembly: Soldering  DESIGNER ABBAS BASEREH)
footprint Socket blue 4
footprint 4Pin
footprint 645004114822 (3.96mm Male Locking Header, 4p)
footprint 645004117322 (3.96mm Male Right Angled Locking Header, 4p)
footprint TMS_4R (Connector; TMS Sereis; 4 Position ,2.54mm Pitch)
footprint Phoenix_4PIN_RA_P7.62mm (Phoenix 4 Pin; Pitch 7.62mm;)
footprint Phoenix_4PIN_RA_P5.08mm (Phoenix 4 Pin; Pitch 5.08mm; Body 2032X1200)
footprint Phoenix_4PIN_RA_P5.00mm (Phoenix 4 Pin; Pitch 5.08mm;)
footprint Phoenix_4PIN_RA_P3.81mm (Phoenix 4 Pin; Pitch 3.81mm;)
footprint Phoenix_4PIN_RA_P3.50mm (Phoenix 4 Pin; Pitch 3.50mm;)
footprint Phoenix_4PIN_RA_P2.50mm (Phoenix 4 Pin; Pitch 2.50mm;)
footprint Terminal_4Pin_P5.08mm (Terminal Block; 4 Pin; Pitch 5.08mm;)
footprint Terminal_4Pin_P5.00mm (Terminal Block; 4Pin; Pitch 5.00mm; Body 2000x900mm)
footprint kf-65-4
footprint kf-55-4
footprint kf-45-4
footprint kf-35-4
footprint KF762_4Pin_P7.62mm (Terminal Block; 4Pin; Pitch 7.62mm; Body 3138x1220mm)
pins: 1, 2, 3, 4

## Con_Power_4_PC_H
designator P?, comment Inflow: 7118  (hidden comment: 4'Pin)
4'Pin Power Connector; Rating: Rating?; Validation: Valid; Value: 4'Pin; Package: Package?; Type: Type?
footprint 645004117322 (3.96mm Male Right Angled Locking Header, 4p)
pins: 1, 2, 3, 4

## Con_Power_4_PC_V
designator P?, comment Inflow: 6223  (hidden comment: 4'Pin)
4'Pin Power Connector; Rating: Rating?; Validation: Valid; Value: 4'Pin; Package: Package?; Type: Type?
footprint 645004114822 (3.96mm Male Locking Header, 4p)
pins: 1, 2, 3, 4

## Con_Power_4_Ph_R
designator P?, comment Inflow: 5343  (hidden comment: Phoenix)
Phoenix Power Connector 4'Pin; Rating: 4b; Validation: Valid; Package: Dip; Type: Right; Value: Phoenix
footprint Phoenix_4PIN_RA_P5.08mm (Phoenix 4 Pin; Pitch 5.08mm; Body 2032X1200)
pins: 1, 2, 3, 4

## Con_Power_5
designator P?, comment Inflow: inflow?  (hidden comment: 5'Pin)
Power Connector 5'Pin; Rating: Rating?; Validation: Valid; Value: 5'Pin; Package: Package?; Type: Type?
footprint TE 282834-5
footprint PRKR5A
footprint Molex-5pin
footprint CON_MKDSN1,5/5-5,08
footprint CON_MSTBA05
footprint MSTBV 2,5/5-G-5 (Header, Nominal current: 12 A Rated voltage (III/2): 320 V Number of positions: 5 Pitch: 5mm Color: green Contact surface: Tin Assembly: Soldering  DESIGNER ABBAS BASEREH)
footprint MSTB 2,5/5-G-5,08 (Header, Nominal current: 12 A Rated voltage (III/2): 320 V Number of positions: 5 Pitch: 5,08 mm Color: green Contact surface: Tin Assembly: Soldering  DESIGNER ABBAS BASEREH)
footprint Socket blue 5
footprint 645005114822 (3.96mm Male Locking Header, 5p)
footprint 645005117322 (3.96mm Male Right Angled Locking Header, 5p)
footprint Phoenix_5PIN_RA_P7.62mm (Phoenix 5 Pin; Pitch 7.62mm;)
footprint Phoenix_5PIN_RA_P5.08mm (Phoenix 5 Pin; Pitch 5.08mm; Body 2540X1200)
footprint Phoenix_5PIN_RA_P5.00mm (Phoenix 5 Pin; Pitch 5.08mm;)
footprint Phoenix_5PIN_RA_P3.81mm (Phoenix 5 Pin; Pitch 3.81mm;)
footprint Phoenix_5PIN_RA_P3.50mm (Phoenix 5 Pin; Pitch 3.50mm;)
footprint Phoenix_5PIN_RA_P2.50mm (Phoenix 5 Pin; Pitch 2.50mm;)
footprint Terminal_5Pin_P5.08mm (Terminal Block; 5Pin; Pitch 5.08mm;)
footprint kf-65-5
footprint kf-55-5
footprint kf-45-5
footprint kf-35-5
footprint KF762_5Pin_P7.62mm (Terminal Block; 5Pin; Pitch 7.62mm; Body 3900x1220mm)
pins: 1, 2, 3, 4, 5

## Con_Power_5_PC_H
designator P?, comment Inflow: 8105  (hidden comment: 5'Pin)
5'Pin Power Connector; Rating: Rating?; Validation: Valid; Value: 5'Pin; Package: Package?; Type: Type?
footprint 645005117322 (3.96mm Male Right Angled Locking Header, 5p)
pins: 1, 2, 3, 4, 5

## Con_Power_5_PC_V
designator P?, comment Inflow: 7121  (hidden comment: 5'Pin)
5'Pin Power Connector; Rating: Rating?; Validation: Valid; Value: 5'Pin; Package: Package?; Type: Type?
footprint 645005114822 (3.96mm Male Locking Header, 5p)
pins: 1, 2, 3, 4, 5

## Con_Power_6
designator P?, comment Inflow: inflow?  (hidden comment: 6'Pin)
Power Connector 6'Pin; Rating: Rating?; Validation: Valid; Value: 6'Pin; Package: Package?; Type: Type?
footprint PRKR6A
footprint CON_MKDSN1,5/6-5,08
footprint CON_MSTBA06
footprint MSTBV 2,5/6-G-5 (Header, Nominal current: 12 A Rated voltage (III/2): 320 V Number of positions: 6 Pitch: 5mm Color: green Contact surface: Tin Assembly: Soldering  DESIGNER ABBAS BASEREH)
footprint MSTB 2,5/6-G-5,08 (Header, Nominal current: 12 A Rated voltage (III/2): 320 V Number of positions: 6 Pitch: 5,08 mm Color: green Contact surface: Tin Assembly: Soldering  DESIGNER ABBAS BASEREH)
footprint Socket blue 6
footprint DIP_HDR_SCREW_6 (KMRJ103-5-508-6)
footprint 645006114822 (3.96mm Male Locking Header, 6p)
footprint TMS6
footprint Phoenix_6PIN_RA_P7.62mm (Phoenix 6 Pin; Pitch 7.62mm;)
footprint Phoenix_6PIN_RA_P5.08mm (Phoenix 6 Pin; Pitch 5.08mm; Body 3048X1200)
footprint Phoenix_6PIN_RA_P5.00mm (Phoenix 6 Pin; Pitch 5.08mm; Body 3048X1200)
footprint Phoenix_6PIN_RA_P3.81mm (Phoenix 6 Pin; Pitch 3.81mm;)
footprint Phoenix_6PIN_RA_P3.50mm (Phoenix 6 Pin; Pitch 3.50mm;)
footprint Phoenix_6PIN_RA_P2.50mm (Phoenix 6 Pin; Pitch 2.50mm;)
footprint Terminal_6Pin_P5.08mm (Terminal Block; 6Pin; Pitch 5.08mm;)
footprint kf-65-6
footprint kf-55-6
footprint kf-45-6
footprint kf-35-6
footprint KF762_6Pin_P7.62mm (Terminal Block; 6Pin; Pitch 7.62mm; Body 4662x1220mm)
pins: 1, 2, 3, 4, 5, 6

## Con_Power_6_PC_V
designator P?, comment Inflow: 6235  (hidden comment: 6'Pin)
6'Pin Power Connector; Rating: Rating?; Validation: Valid; Value: 6'Pin; Package: Package?; Type: Type?
footprint 645006114822 (3.96mm Male Locking Header, 6p)
pins: 1, 2, 3, 4, 5, 6

## Con_Power_7
designator P?, comment Inflow: inflow?  (hidden comment: 7'Pin)
Power Connector 7'Pin; Rating: Rating?; Validation: Valid; Value: 7'Pin; Package: Package?; Type: Type?
footprint JST XH B7B-XH-A
footprint JST XH B7B-XH-A - RIGHT
footprint PRKR7A
footprint MOLEX KK 0022272071
footprint CON_MKDSN1,5/7-5,08
footprint CON_MSTBA07
footprint Socket blue 7
footprint Phoenix_7PIN_RA_P7.62mm (Phoenix 7 Pin; Pitch 7.62mm;)
footprint Phoenix_7PIN_RA_P5.08mm (Phoenix 7 Pin; Pitch 5.08mm; Body 3556X1200)
footprint Phoenix_7PIN_RA_P5.00mm (Phoenix 7 Pin; Pitch 5.08mm;)
footprint Phoenix_7PIN_RA_P3.81mm (Phoenix 7 Pin; Pitch 3.81mm;)
footprint Phoenix_7PIN_RA_P3.50mm (Phoenix 7 Pin; Pitch 3.50mm;)
footprint Phoenix_7PIN_RA_P2.50mm (Phoenix 7 Pin; Pitch 2.50mm;)
footprint Terminal_7Pin_P5.08mm (Terminal Block; 7Pin; Pitch 5.08mm;)
footprint Terminal_7Pin_P5.00mm (Terminal Block; 7Pin; Pitch 5.00mm; Body 3500x900mm)
footprint kf-55-7
footprint KF762_7Pin_P7.62mm (Terminal Block; 7Pin; Pitch 7.62mm; Body 5424x1220mm)
pins: 1, 2, 3, 4, 5, 6, 7

## Con_Power_7_PC_V
designator P?, comment Inflow: 6229  (hidden comment: 7'Pin)
7'Pin Power Connector; Rating: Rating?; Validation: Valid; Value: 7'Pin; Package: Package?; Type: Type?
footprint MOLEX KK 0022272071
pins: 1, 2, 3, 4, 5, 6, 7

## Con_Power_8
designator P?, comment Inflow: inflow?  (hidden comment: 8'Pin)
Power Connector 8'Pin; Rating: Rating?; Validation: Valid; Value: 8'Pin; Package: Package?; Type: Type?
footprint CON_MKDSN1,5/8-5,08
footprint CON_MSTBA08
footprint Socket blue 8
footprint PRKR8A
footprint 645008114822 (3.96mm Male Locking Header, 8p)
footprint 645008117322 (3.96mm Male Right Angled Locking Header, 8p)
footprint Phoenix_8PIN_RA_P7.62mm (Phoenix 8 Pin; Pitch 7.62mm;)
footprint Phoenix_8PIN_RA_P5.08mm (Phoenix 8 Pin; Pitch 5.08mm; Body 4064X1200)
footprint Phoenix_8PIN_RA_P5.00mm (Phoenix 8 Pin; Pitch 5.08mm;)
footprint Phoenix_8PIN_RA_P3.81mm (Phoenix 8 Pin; Pitch 3.81mm;)
footprint Phoenix_8PIN_RA_P3.50mm (Phoenix 8 Pin; Pitch 3.50mm;)
footprint Phoenix_8PIN_RA_P2.50mm (Phoenix 8 Pin; Pitch 2.50mm;)
footprint Terminal_8Pin_P5.08mm (Terminal Block; 9Pin; Pitch 5.08mm;)
footprint Terminal_8Pin_P5.00mm (Terminal Block; 8Pin; Pitch 5.00mm; Body 4000x900mm)
footprint kf-65-8
footprint kf-55-8
footprint KF762_8Pin_P7.62mm (Terminal Block; 8Pin; Pitch 7.62mm; Body 6186x1220mm)
pins: 1, 2, 3, 4, 5, 6, 7, 8

## Con_Power_8_PC_H
designator P?, comment Inflow: 6243  (hidden comment: 8'Pin)
8'Pin Power Connector; Rating: Rating?; Validation: Valid; Value: 8'Pin; Package: Package?; Type: Type?
footprint 645008117322 (3.96mm Male Right Angled Locking Header, 8p)
pins: 1, 2, 3, 4, 5, 6, 7, 8

## Con_Power_8_PC_V
designator P?, comment Inflow: 6227  (hidden comment: 8'Pin)
8'Pin Power Connector; Rating: Rating?; Validation: Valid; Value: 8'Pin; Package: Package?; Type: Type?
footprint 645008114822 (3.96mm Male Locking Header, 8p)
pins: 1, 2, 3, 4, 5, 6, 7, 8

## Con_Power_9
designator P?, comment Inflow: inflow?  (hidden comment: 9'Pin)
Power Connector 9'Pin; Rating: Rating?; Validation: NT; Value: 9'Pin; Package: Package?; Type: Type?
footprint CON_MSTBA09
footprint CON_MKDSN1,5/9-5,08
footprint Socket blue 9
footprint PRKR9A
footprint Phoenix_9PIN_RA_P5.08mm (Phoenix 9 Pin; Pitch 5.08mm; Body 4572X1200)
footprint Phoenix_9PIN_RA_P3.81mm (Phoenix 9 Pin; Pitch 3.81mm;)
footprint Terminal_9Pin_P5.08mm (Terminal Block; 9Pin; Pitch 5.08mm;)
footprint kf-65-9
footprint kf-55-9
footprint KF762_9Pin_P7.62mm (Terminal Block; 9Pin; Pitch 7.62mm; Body 6948x1220mm)
pins: 1, 2, 3, 4, 5, 6, 7, 8, 9

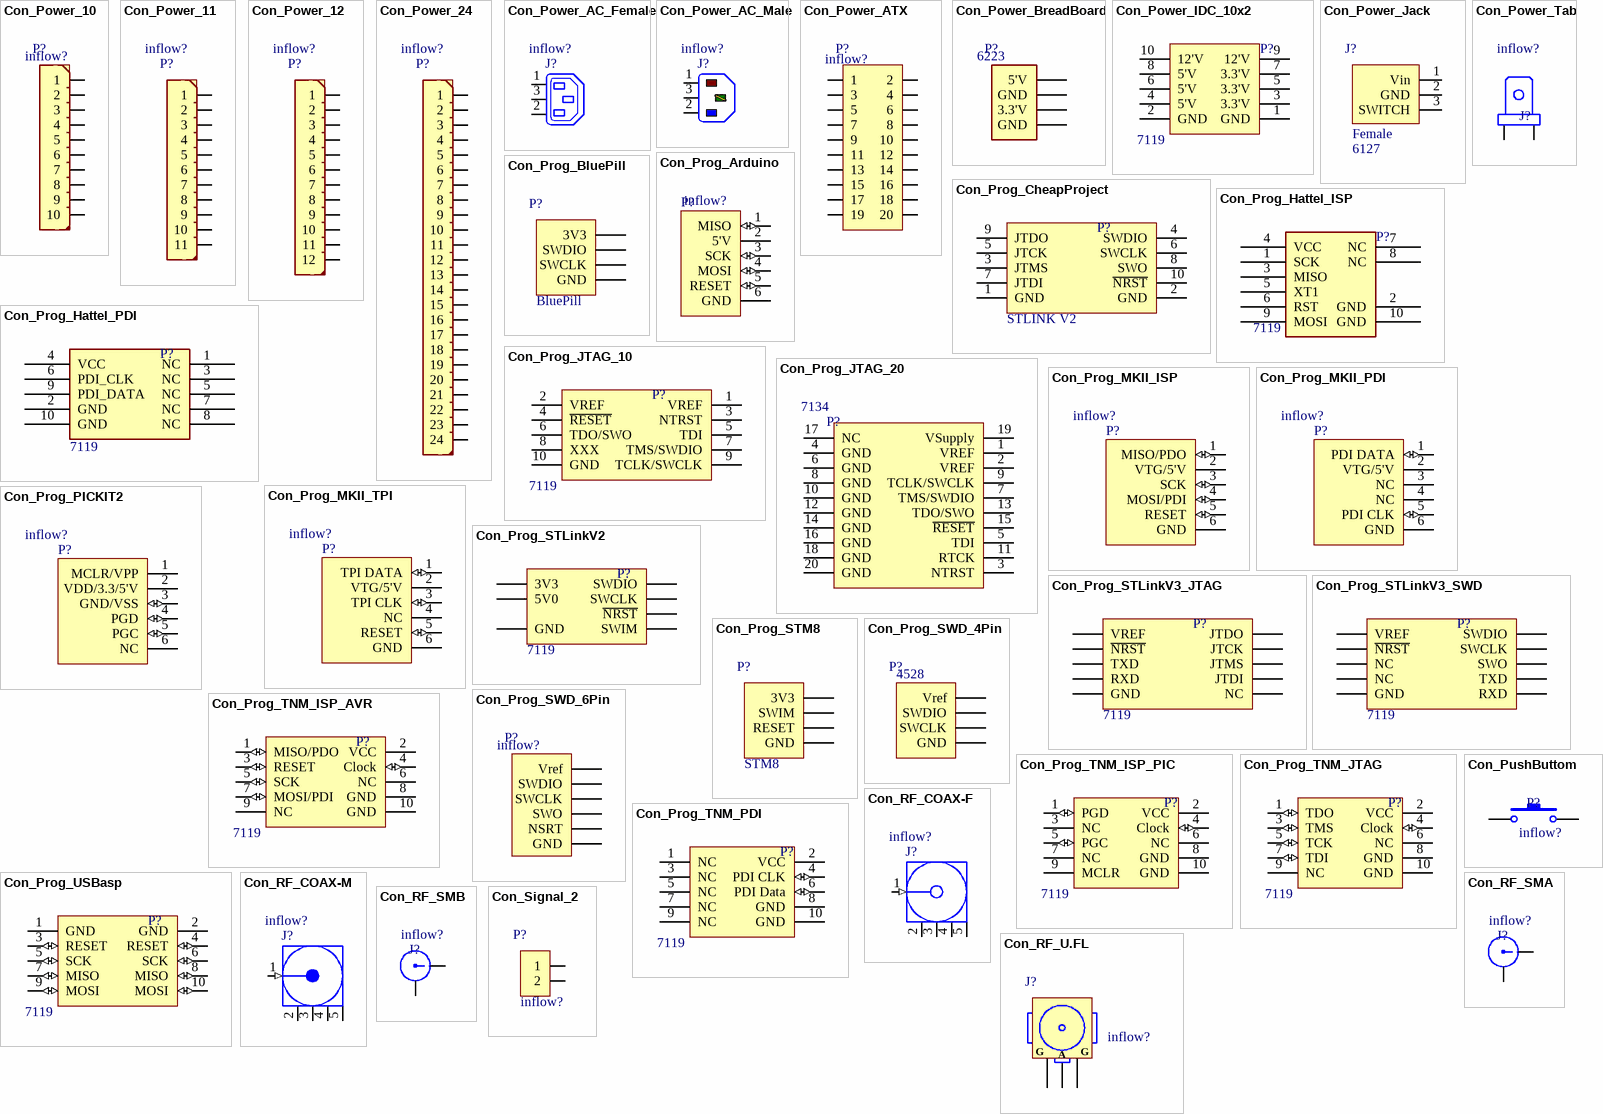
[diagram p2: symbols Con_Power_10 to Con_Signal_2]

## Con_Power_10
designator P?, comment Inflow: inflow?  (hidden comment: 10'Pin)
Power Connector 10'Pin; Rating: Rating?; Validation: Valid; Value: 10'Pin; Package: Package?; Type: Type?
footprint JST XH B10B-XH-A
footprint JST XH B10B-XH-A - RIGHT
footprint MOLEX KK 0022272101
footprint CON_MKDSN1,5/10-5,08
footprint CON_MSTBA10
footprint Socket blue 10
footprint PRKR10A
footprint 645010114822 (3.96mm Male Locking Header, 10p)
footprint 645010117322 (3.96mm Male Right Angled Locking Header, 10p)
footprint Phoenix_10PIN_RA_P5.08mm (Phoenix 10 Pin; Pitch 5.08mm; Body 5080X1200)
footprint Phoenix_10PIN_RA_P3.81mm (Phoenix 10 Pin; Pitch 3.81mm;)
footprint Terminal_10Pin_P5.08mm (Terminal Block; 10Pin; Pitch 5.08mm;)
footprint Terminal_10Pin_P5.00mm (Terminal Block; 10Pin; Pitch 5.00mm; Body 5000x900mm)
footprint kf-55-10
footprint KF762_10Pin_P7.62mm (Terminal Block; 10Pin; Pitch 7.62mm; Body 7710x1220mm)
pins: 1, 2, 3, 4, 5, 6, 7, 8, 9, 10

## Con_Power_11
designator P?, comment Inflow: inflow?  (hidden comment: 11'Pin)
Power Connector 11'Pin; Rating: Rating?; Validation: NT; Value: 11'Pin; Package: Package?; Type: Type?
footprint CON_MSTBA11
footprint Phoenix_11PIN_RA_P5.08mm (Phoenix 11 Pin; Pitch 5.08mm; Body 5588X1200)
footprint Phoenix_11PIN_RA_P3.81mm (Phoenix 11 Pin; Pitch 3.81mm;)
footprint Terminal_11Pin_P5.00mm (Terminal Block; 11Pin; Pitch 5.00mm; Body 5500x900mm)
footprint KF762_11Pin_P7.62mm (Terminal Block; 11Pin; Pitch 7.62mm; Body 8472x1220mm)
pins: 1, 2, 3, 4, 5, 6, 7, 8, 9, 10, 11

## Con_Power_12
designator P?, comment Inflow: inflow?  (hidden comment: 12'Pin)
Power Connector 12'Pin; Rating: Rating?; Validation: NT; Value: 12'Pin; Package: Package?; Type: Type?
footprint CON_MSTBA12
footprint Socket blue 12
footprint DIP_HDR_SCREW_12 (KMRJ103-5-508-12)
footprint Phoenix_12PIN_RA_P7.62mm (Phoenix 12 Pin; Pitch 7.62mm;)
footprint Phoenix_12PIN_RA_P5.08mm (Phoenix 12 Pin; Pitch 5.08mm; Body 6096X1200)
footprint Phoenix_12PIN_RA_P5.00mm (Phoenix 12 Pin; Pitch 5.08mm;)
footprint Phoenix_12PIN_RA_P3.81mm (Phoenix 12 Pin; Pitch 3.81mm;)
footprint Phoenix_12PIN_RA_P3.50mm (Phoenix 12 Pin; Pitch 3.50mm;)
footprint Phoenix_12PIN_RA_P2.50mm (Phoenix 12 Pin; Pitch 2.50mm;)
footprint KF762_12Pin_P7.62mm (Terminal Block; 12Pin; Pitch 7.62mm; Body 9234x1220mm)
footprint Terminal_12Pin_P5.00mm (Terminal Block; 12Pin; Pitch 5.00mm; Body 6000x900mm)
pins: 1, 2, 3, 4, 5, 6, 7, 8, 9, 10, 11, 12

## Con_Power_24
designator P?, comment Inflow: inflow?  (hidden comment: 24'Pin)
Power Connector 24'Pin; Rating: Rating?; Validation: NT; Value: 24'Pin; Package: Package?; Type: Type?
footprint CON_MSTBA24
pins: 1, 2, 3, 4, 5, 6, 7, 8, 9, 10, 11, 12, 13, 14, 15, 16, 17, 18, 19, 20, 21, 22, 23, 24

## Con_Power_AC_Female
designator J?, comment Inflow: inflow?  (hidden comment: Female)
IEC Mains Power Outlet, EN60 320-2-2 F Class I, PC Flange Rear Mount, Chassis Socket; Rating: Rating?; Validation: NT; Value: Female; Package: Package?; Type: Type?
footprint IEC7-2H3 (Mains Power Outlet, IEC60 320-2-2 F, PC Flange Rear Mount)
pins: 1 L (power) "Live (Active)", 2 N (power) "Neutral", 3 E (power) "Earth (Ground)"

## Con_Power_AC_Male
designator J?, comment Inflow: inflow?  (hidden comment: Male)
IEC Mains Power Inlet, EN60 320-1 C14 Class I Cold Condition, PC Flange Rear Mount, Chassis Plug; Rating: Rating?; Validation: NT; Value: Male; Package: Package?; Type: Type?
footprint IEC9.14-2H3 (Mains Power Inlet, IEC60 320-1 C14, PC Flange Rear Mount)
pins: 1 L (power) "Live (Active)", 2 N (power) "Neutral", 3 E (power) "Earth (Ground)"

## Con_Power_ATX
designator P?, comment Inflow: inflow?  (hidden comment: ATX)
ATX-20Pin; Rating: Rating?; Validation: NT; Value: ATX; Package: Package?; Type: Type?
footprint ATX
pins: 1, 2, 3, 4, 5, 6, 7, 8, 9, 10, 11, 12, 13, 14, 15, 16, 17, 18, 19, 20

## Con_Power_BreadBoard
designator P?, comment Inflow: 6223  (hidden comment: YwRobot V2)
Breadboard Power Supply 5'V, 3.3'V; Rating: Rating?; Validation: NT; Value: YwRobot V2; Package: Package?; Type: Type?
footprint BreadBoard_PS
pins: 1 5'V, 2 GND, 3 3.3'V, 4 GND

## Con_Power_IDC_10x2
designator P?, comment Inflow: 7119  (hidden comment: Power, 10'Pin)
10 Pin Power Header for old version education board; Rating: Rating?; Validation: Valid; Value: Power, 10'Pin; Package: Package?; Type: Type?
footprint 918510x324 (Connector; IDC, Low Profile Male Header, Thru-Hole; 10 Position; Vertical; Pitch 2.54 mm; Body 20.32 x 9.2 x 9.45 mm (LxWxH))
footprint 918510x323 (Connector; IDC, Low Profile Male Header, Thru-Hole; 10 Position; Right Angle; Pitch 2.54 mm; Body 20.32 x 8.9 x 9.2 mm (LxWxH))
footprint IDC2.54-10PIN (Connector; IDC, Low Profile Male Header, Thru-Hole; 10 Position; Vertical; Pitch 2.54 mm; 20.32 x 9.2 x 9.45 mm (LxWxH) DESIGNER : ABBAS BASEREH)
footprint IDC2.54-10PIN - CROSS (Connector; IDC, Low Profile Male Header, Thru-Hole; 10 Position; Vertical; Pitch 2.54 mm; 20.32 x 9.2 x 9.45 mm (LxWxH) DESIGNER : ABBAS BASEREH)
footprint IDC2.54-10PIN WITH CABLE (Connector; IDC, Low Profile Male Header, Thru-Hole; 10 Position; Vertical; Pitch 2.54 mm; 20.32 x 9.2 x 9.45 mm (LxWxH) DESIGNER : ABBAS BASEREH)
footprint IDC2.54-H10C (Connector; IDC, Low Profile Male Header, Thru-Hole; 10 Position; Right Angle; Pitch 2.54 mm; Body 20.32 x 8.9 x 9.2 mm (LxWxH))
pins: 1 GND, 2 GND, 3 3.3'V "Pull_Down_10K'Ohm", 4 5'V "Pull_Down_10K'Ohm", 5 3.3'V, 6 5'V, 7 3.3'V, 8 5'V, 9 12'V, 10 12'V

## Con_Power_Jack
designator J?, comment Inflow: 6127  (hidden comment: Female)
Power Jack; Rating: Rating?; Validation: Valid; Type: Type?; Package: Package?; Value: Female
footprint Power Jack SMALL (Pin connections for Barrel Jack)
footprint Power Jack BIG (Power Adaptor Jack)
footprint Power jack (Power Adaptor Jack)
footprint DC Power Jack DS213 (DC Power Jack Model DS-213)
footprint DC-JACK-6.2mm
footprint DC-JACK-6.2mm-ROUND (µçÔ´²å¿×)
footprint DC-Jack-THT-6.4 (DC Power Jack Vertical THT ?6.4)
footprint DC-Jack-THT-RA-2.8 (DC Power Jack THT Right Angled Low Profile(2.8))
footprint DC-Jack-THT-RA-3.8 (DC Power Jack THT Right Angled Low Profile(3.8))
footprint DC-Jack-THT-RA-4.2 (DC Power Jack Right Angled(4.2))
footprint DC-Jack-THT-RA-4.93 (DC Power Jack Right Angled Shielded THT ?4.93)
footprint DC-Jack-THT-RA-6.4 (DC Power Jack Right Angled(6.4))
footprint DC-Jack RA-SMT-6.4-4pad (DC Power Jack Right Angled SMT ?6.4 with 4 soldering pads & pegs)
footprint DC-Jack RA-SMT-6.4-3pad (DC Power Jack Right Angled SMT 6.4 with 3 soldering pad)
footprint DC-Jack RA-SMT-3.9-4pad (DC Power Jack Right Angled Low Profile SMT 3.9)
footprint DC-Jack-SMT-5.5-3pad (DC Power Jack Connector Vertical SMT 5.5 with 3 Solder Pads)
pins: 1 Vin, 2 GND, 3 SWITCH

## Con_Power_Tab
designator J?, comment Inflow: inflow?  (hidden comment: Tab)
Terminals TAB .250 PCB; Rating: Rating?; Validation: NT; Value: Tab; Package: Package?; Type: Type?
footprint 63849-1 (Terminals TAB .250 PCB)
pins: 1, 2

## Con_Prog_Arduino
designator P?, comment Inflow: inflow?  (hidden comment: 3x2)
6 Pin Standard ISP Header For Arduino; Rating: Rating?; Validation: NT; Value: 3x2; Package: Package?; Type: Type?
footprint IDC_2X3
pins: 1 MISO (io), 2 5'V, 3 SCK (io), 4 MOSI (io), 5 RESET (io), 6 GND

## Con_Prog_BluePill
designator P?, comment BluePill
Serial Wire 4'pin; Rating: Rating?; Validation: NT; Inflow: 4528; Package: Package?; Type: Type?; Value: BluePill
footprint MOLEX KK 0022272041
footprint JST XH B4B-XH-A
footprint JST XH B4B-XH-A - RIGHT
footprint HDR 1X4 (Connector; Header; 4 Position)
footprint Molex sda-70553-4pin (SL Right Angle Header W/LAtch & Trip-Pegs 2.54mm Centres)
pins: 1 3V3, 2 SWDIO, 3 SWCLK, 4 GND

## Con_Prog_CheapProject
designator P?, comment STLINK V2
STLINK-V2 debugger/programmer IDC probe for STM32 microcontrollers; Rating: Rating?; Validation: Valid; Inflow: 7119; Package: Package?; Type: SWD; Value: STLINK V2
footprint 918510x324 (Connector; IDC, Low Profile Male Header, Thru-Hole; 10 Position; Vertical; Pitch 2.54 mm; Body 20.32 x 9.2 x 9.45 mm (LxWxH))
footprint 918510x323 (Connector; IDC, Low Profile Male Header, Thru-Hole; 10 Position; Right Angle; Pitch 2.54 mm; Body 20.32 x 8.9 x 9.2 mm (LxWxH))
footprint IDC2.54-10PIN (Connector; IDC, Low Profile Male Header, Thru-Hole; 10 Position; Vertical; Pitch 2.54 mm; 20.32 x 9.2 x 9.45 mm (LxWxH) DESIGNER : ABBAS BASEREH)
footprint IDC2.54-10PIN - CROSS (Connector; IDC, Low Profile Male Header, Thru-Hole; 10 Position; Vertical; Pitch 2.54 mm; 20.32 x 9.2 x 9.45 mm (LxWxH) DESIGNER : ABBAS BASEREH)
footprint IDC2.54-H10C (Connector; IDC, Low Profile Male Header, Thru-Hole; 10 Position; Right Angle; Pitch 2.54 mm; Body 20.32 x 8.9 x 9.2 mm (LxWxH))
pins: 1 GND "Pull_Down_10K'Ohm", 2 GND, 3 JTMS, 4 SWDIO, 5 JTCK "Pull_Down_10K'Ohm", 6 SWCLK, 7 JTDI, 8 SWO, 9 JTDO, 10 ~{NRST}

## Con_Prog_Hattel_ISP
designator P?, comment Inflow: 7119  (hidden comment: JTAG, 10'Pin)
10 Pin Standard ISP Header For TNM; Rating: Rating?; Validation: Valid; Value: JTAG, 10'Pin; Package: Package?; Type: Type?
footprint 918510x324 (Connector; IDC, Low Profile Male Header, Thru-Hole; 10 Position; Vertical; Pitch 2.54 mm; Body 20.32 x 9.2 x 9.45 mm (LxWxH))
footprint 918510x323 (Connector; IDC, Low Profile Male Header, Thru-Hole; 10 Position; Right Angle; Pitch 2.54 mm; Body 20.32 x 8.9 x 9.2 mm (LxWxH))
footprint IDC2.54-10PIN (Connector; IDC, Low Profile Male Header, Thru-Hole; 10 Position; Vertical; Pitch 2.54 mm; 20.32 x 9.2 x 9.45 mm (LxWxH) DESIGNER : ABBAS BASEREH)
footprint IDC2.54-10PIN - CROSS (Connector; IDC, Low Profile Male Header, Thru-Hole; 10 Position; Vertical; Pitch 2.54 mm; 20.32 x 9.2 x 9.45 mm (LxWxH) DESIGNER : ABBAS BASEREH)
footprint IDC2.54-10PIN WITH CABLE (Connector; IDC, Low Profile Male Header, Thru-Hole; 10 Position; Vertical; Pitch 2.54 mm; 20.32 x 9.2 x 9.45 mm (LxWxH) DESIGNER : ABBAS BASEREH)
footprint IDC2.54-H10C (Connector; IDC, Low Profile Male Header, Thru-Hole; 10 Position; Right Angle; Pitch 2.54 mm; Body 20.32 x 8.9 x 9.2 mm (LxWxH))
pins: 1 SCK, 2 GND, 3 MISO, 4 VCC, 5 XT1, 6 RST, 7 NC, 8 NC, 9 MOSI, 10 GND

## Con_Prog_Hattel_PDI
designator P?, comment Inflow: 7119  (hidden comment: JTAG, 10'Pin)
10 Pin Standard ISP Header For TNM; Rating: Rating?; Validation: NT; Value: JTAG, 10'Pin; Package: Package?; Type: Type?
footprint 918510x324 (Connector; IDC, Low Profile Male Header, Thru-Hole; 10 Position; Vertical; Pitch 2.54 mm; Body 20.32 x 9.2 x 9.45 mm (LxWxH))
footprint 918510x323 (Connector; IDC, Low Profile Male Header, Thru-Hole; 10 Position; Right Angle; Pitch 2.54 mm; Body 20.32 x 8.9 x 9.2 mm (LxWxH))
footprint IDC2.54-10PIN (Connector; IDC, Low Profile Male Header, Thru-Hole; 10 Position; Vertical; Pitch 2.54 mm; 20.32 x 9.2 x 9.45 mm (LxWxH) DESIGNER : ABBAS BASEREH)
footprint IDC2.54-10PIN - CROSS (Connector; IDC, Low Profile Male Header, Thru-Hole; 10 Position; Vertical; Pitch 2.54 mm; 20.32 x 9.2 x 9.45 mm (LxWxH) DESIGNER : ABBAS BASEREH)
footprint IDC2.54-10PIN WITH CABLE (Connector; IDC, Low Profile Male Header, Thru-Hole; 10 Position; Vertical; Pitch 2.54 mm; 20.32 x 9.2 x 9.45 mm (LxWxH) DESIGNER : ABBAS BASEREH)
footprint IDC2.54-H10C (Connector; IDC, Low Profile Male Header, Thru-Hole; 10 Position; Right Angle; Pitch 2.54 mm; Body 20.32 x 8.9 x 9.2 mm (LxWxH))
pins: 1 NC, 2 GND, 3 NC, 4 VCC, 5 NC, 6 PDI_CLK, 7 NC, 8 NC, 9 PDI_DATA, 10 GND

## Con_Prog_JTAG_10
designator P?, comment Inflow: 7119  (hidden comment: JTAG-10P)
10 Pin Standard JTAG Header For ARM JLINK; Rating: Rating?; Validation: NT; Value: JTAG-10P; Package: Package?; Type: Type?
footprint 918510x324 (Connector; IDC, Low Profile Male Header, Thru-Hole; 10 Position; Vertical; Pitch 2.54 mm; Body 20.32 x 9.2 x 9.45 mm (LxWxH))
footprint 918510x323 (Connector; IDC, Low Profile Male Header, Thru-Hole; 10 Position; Right Angle; Pitch 2.54 mm; Body 20.32 x 8.9 x 9.2 mm (LxWxH))
footprint IDC2.54-10PIN (Connector; IDC, Low Profile Male Header, Thru-Hole; 10 Position; Vertical; Pitch 2.54 mm; 20.32 x 9.2 x 9.45 mm (LxWxH) DESIGNER : ABBAS BASEREH)
footprint IDC2.54-10PIN - CROSS (Connector; IDC, Low Profile Male Header, Thru-Hole; 10 Position; Vertical; Pitch 2.54 mm; 20.32 x 9.2 x 9.45 mm (LxWxH) DESIGNER : ABBAS BASEREH)
footprint IDC2.54-10PIN WITH CABLE (Connector; IDC, Low Profile Male Header, Thru-Hole; 10 Position; Vertical; Pitch 2.54 mm; 20.32 x 9.2 x 9.45 mm (LxWxH) DESIGNER : ABBAS BASEREH)
footprint IDC2.54-H10C (Connector; IDC, Low Profile Male Header, Thru-Hole; 10 Position; Right Angle; Pitch 2.54 mm; Body 20.32 x 8.9 x 9.2 mm (LxWxH))
pins: 1 VREF (power), 2 VREF (power), 3 NTRST (oc), 4 ~{RESET} (oc), 5 TDI (oc), 6 TDO/SWO (oc), 7 TMS/SWDIO (oc) "Pull_Down_10K'Ohm", 8 XXX (oc), 9 TCLK/SWCLK (oc), 10 GND (power)

## Con_Prog_JTAG_20
designator P?, comment Inflow: 7134  (hidden comment: JTAG-20P)
20 Pin Standard JTAG Header For ARM JLINK; Rating: Rating?; Validation: NT; Value: JTAG-20P; Package: Package?; Type: Type?
footprint BOX-HDR-10X2-2.54mm-S (20 pins, straight, gold plating)
footprint BOX-HDR-10X2-2.00mm-L (2.00mm Male Box Header with Lever, 20p)
footprint BOX-HDR-10X2-2.00mm-RA (2.00mm Male Angled Box Header, 20p)
footprint BOX-HDR-10X2-2.00mm-RA-L (2.00mm Male Angled Box Header with Lever, 20p)
footprint BOX-HDR-10X2-2.00mm-S (2.00mm Male Box Header, 20p)
footprint BOX-HDR-10X2-2.54mm-LL (20 pins, straight, long lever, gold plating)
footprint BOX-HDR-10X2-2.54mm-RA (20 pins, right angled, gold plating)
footprint BOX-HDR-10X2-2.54mm-RA-LL (20 pins, right angeled, long lever, gold plating)
footprint BOX-HDR-10X2-2.54mm-RA-SL (20 pins, right angeled, short lever, gold plating)
footprint BOX-HDR-10X2-2.54mm-SL (20 pins, straight, short lever, gold plating)
footprint BOX-HDR-SMD-10X2-2.00mm-S (2.00mm Male SMT Box Header, 20p)
footprint BOX-HDR-SMD-10X2-2.54mm-S (20 pins, SMT, straight, gold plating)
pins: 1 VREF "VCC", 2 VREF (power), 3 NTRST "Reset", 4 GND (power) "Ground", 5 TDI "PU10K", 6 GND (power) "Ground", 7 TMS/SWDIO "PU10K", 8 GND (power) "Ground", 9 TCLK/SWCLK "PD10K", 10 GND (power) "Ground", 11 RTCK "PU10K (Optional)", 12 GND (power) "Ground", 13 TDO/SWO "Ground", 14 GND (power) "Ground", 15 ~{RESET} "PU10K", 16 GND (power) "Ground", 17 NC "PD10K (Optional)", 18 GND (power) "Ground", 19 VSupply, 20 GND (power) "Ground"